# Altium schematic symbol library MAX98357AETE+T.SchLib: 1 symbol
Pins are listed as number, name and electrical type; pins without a type are passive.

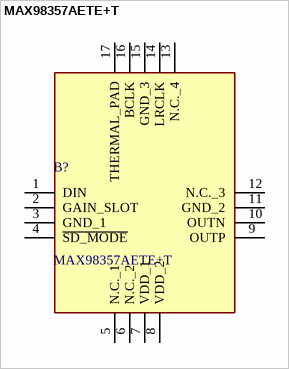
[diagram p0: symbol MAX98357AETE+T]

## MAX98357AETE+T
designator B?
Audio Amplifiers Digital Input Class D Amplifier; Manufacturer_Name: Analog Devices; Geometry.Height: 0.8mm; Manufacturer_Part_Number: MAX98357AETE+T; Mouser Part Number: 700-MAX98357AETE+T; Mouser Price/Stock: https://www.mouser.co.uk/ProductDetail/Analog-Devices-Maxim-Integrated/MAX98357AETE%2bT?qs=AAveGqk956HhNpoJjF5x2g%3D%3D; Arrow Part Number: MAX98357AETE+T; Arrow Price/Stock: https://www.arrow.com/en/products/max98357aetet/analog-devices.html?utm_currency=USD&region=asia; Datasheet Link: https://datasheets.maximintegrated.com/en/ds/MAX98357A-MAX98357B.pdf
footprint QFN50P300X300X80-17N
pins: 1 DIN, 2 GAIN_SLOT, 3 GND_1, 4 ~{SD_MODE}, 5 N.C._1, 6 N.C._2, 7 VDD_1, 8 VDD_2, 9 OUTP, 10 OUTN, 11 GND_2, 12 N.C._3, 13 N.C._4, 14 LRCLK, 15 GND_3, 16 BCLK, 17 THERMAL_PAD